# EAGLE library part AD5766 (library adc_dac)
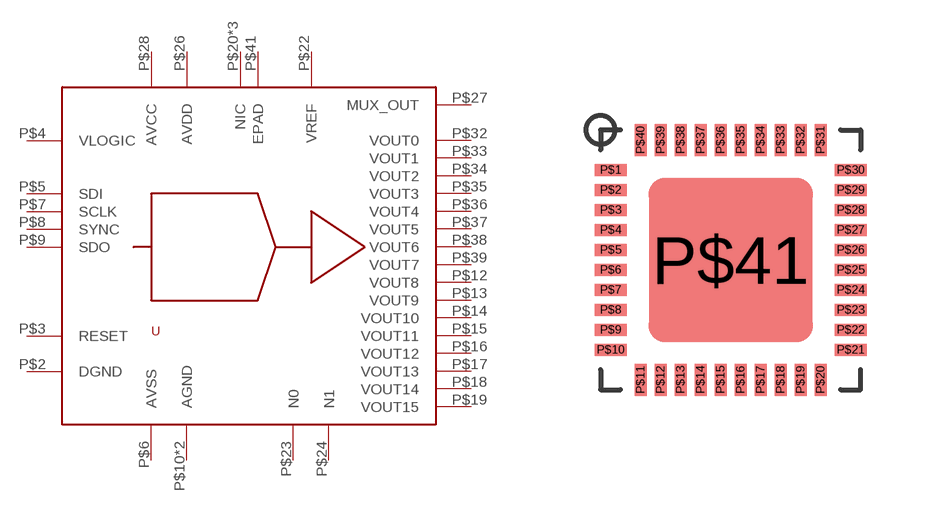
[diagram p1: symbol with the pads of LFCSP_CP-40-7; footprint LFCSP_CP-40-7]

Designator prefix -

## AD5766  [LFCSP_CP-40-7]
P$2  DGND
P$3  RESET
P$4  VLOGIC
P$5  SDI
P$6  AVSS
P$7  SCLK
P$8  SYNC
P$9  SDO
P$10  AGND
P$12  VOUT8
P$13  VOUT9
P$14  VOUT10
P$15  VOUT11
P$16  VOUT12
P$17  VOUT13
P$18  VOUT14
P$19  VOUT15
P$20  NIC
P$22  VREF
P$23  N0
P$24  N1
P$25  NIC
P$26  AVDD
P$27  MUX_OUT
P$28  AVCC
P$29  AGND
P$31  NIC
P$32  VOUT0
P$33  VOUT1
P$34  VOUT2
P$35  VOUT3
P$36  VOUT4
P$37  VOUT5
P$38  VOUT6
P$39  VOUT7
P$41  EPAD

## Footprint LFCSP_CP-40-7 (pad centres in mm)
smd 0.8 x 0.3: P$1 -3,2.25; P$2 -3,1.75; P$3 -3,1.25; P$4 -3,0.75; P$5 -3,0.25; P$6 -3,-0.25; P$7 -3,-0.75; P$8 -3,-1.25; P$9 -3,-1.75; P$10 -3,-2.25; P$21 3,-2.25; P$22 3,-1.75; P$23 3,-1.25; P$24 3,-0.75; P$25 3,-0.25; P$26 3,0.25; P$27 3,0.75; P$28 3,1.25; P$29 3,1.75; P$30 3,2.25
smd 0.3 x 0.8: P$11 -2.25,-3; P$12 -1.75,-3; P$13 -1.25,-3; P$14 -0.75,-3; P$15 -0.25,-3; P$16 0.25,-3; P$17 0.75,-3; P$18 1.25,-3; P$19 1.75,-3; P$20 2.25,-3; P$31 2.25,3; P$32 1.75,3; P$33 1.25,3; P$34 0.75,3; P$35 0.25,3; P$36 -0.25,3; P$37 -0.75,3; P$38 -1.25,3; P$39 -1.75,3; P$40 -2.25,3
smd 4.1 x 4.1: P$41 0,0